# Altium schematic symbol library INA199C3DCKR.SchLib: 1 symbol
Pins are listed as number, name and electrical type; pins without a type are passive.

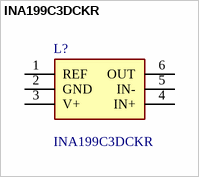
[diagram p0: symbol INA199C3DCKR]

## INA199C3DCKR
designator L?
26V, bi-directional, zero-drift, low-/high-side, voltage output current sense amplifier; Manufacturer_Name: Texas Instruments; Geometry.Height: 1.1mm; Mouser Part Number: 595-INA199C3DCKR; Mouser Price/Stock: https://www.mouser.co.uk/ProductDetail/Texas-Instruments/INA199C3DCKR?qs=0C8XhJW8e4r6fLKZGUND2A%3D%3D; Manufacturer_Part_Number: INA199C3DCKR; Datasheet Link: http://www.ti.com/lit/gpn/INA199
footprint SOT65P210X110-6N
pins: 1 REF, 2 GND, 3 V+, 4 IN+, 5 IN-, 6 OUT